# Altium schematic symbol library Components - 25.03.23 - 18.58.SchLib: 1 symbol
Pins are listed as number, name and electrical type; pins without a type are passive.

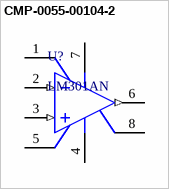
[diagram p0: symbol CMP-0055-00104-2]

## CMP-0055-00104-2
designator U?, comment LM301AN
Operational Amplifier, 8-pin MDIP; Manufacturer: National Semiconductor; PackageTopMarking: NSUZXYTTE#*LM*301AN; PowerWise: N; CompType: Amplifiers; PackageVersion: revG, May-2006; DatasheetVersion: Aug-2000; PinCount: 8; ComponentLink3Description: N08E Package Page; Code_JEDEC: MS-001-BA; ComponentLink1Description: LM301A Datasheet; ComponentLink2Description: LM301A Web Page; PackageReference: N08E; PackageDescription: MDIP, .365 x .250 x .130in, 8 Lead, .100in Pitch; ComponentLink3URL: http://www.national.com/packaging/folders/n08e.html; ComponentLink1URL: http://www.national.com/ds/LM/LM301A.pdf; RevisionNote: Component URLs added; RoHS: N; ComponentLink2URL: http://www.national.com/pf/LM/LM301A.html
footprint N08E (DIP, 8-Pin, Row Spacing 7.62 mm, Pitch 2.54 mm)
pins: 1 BAL/COMP, 2 IN- (in), 3 IN+ (in), 4 V- (power), 5 BAL, 6 OUT (out), 7 V+ (power), 8 COMP